# Altium integrated library Maxim Sensors.IntLib: 1171 symbols (part 61 of 61)
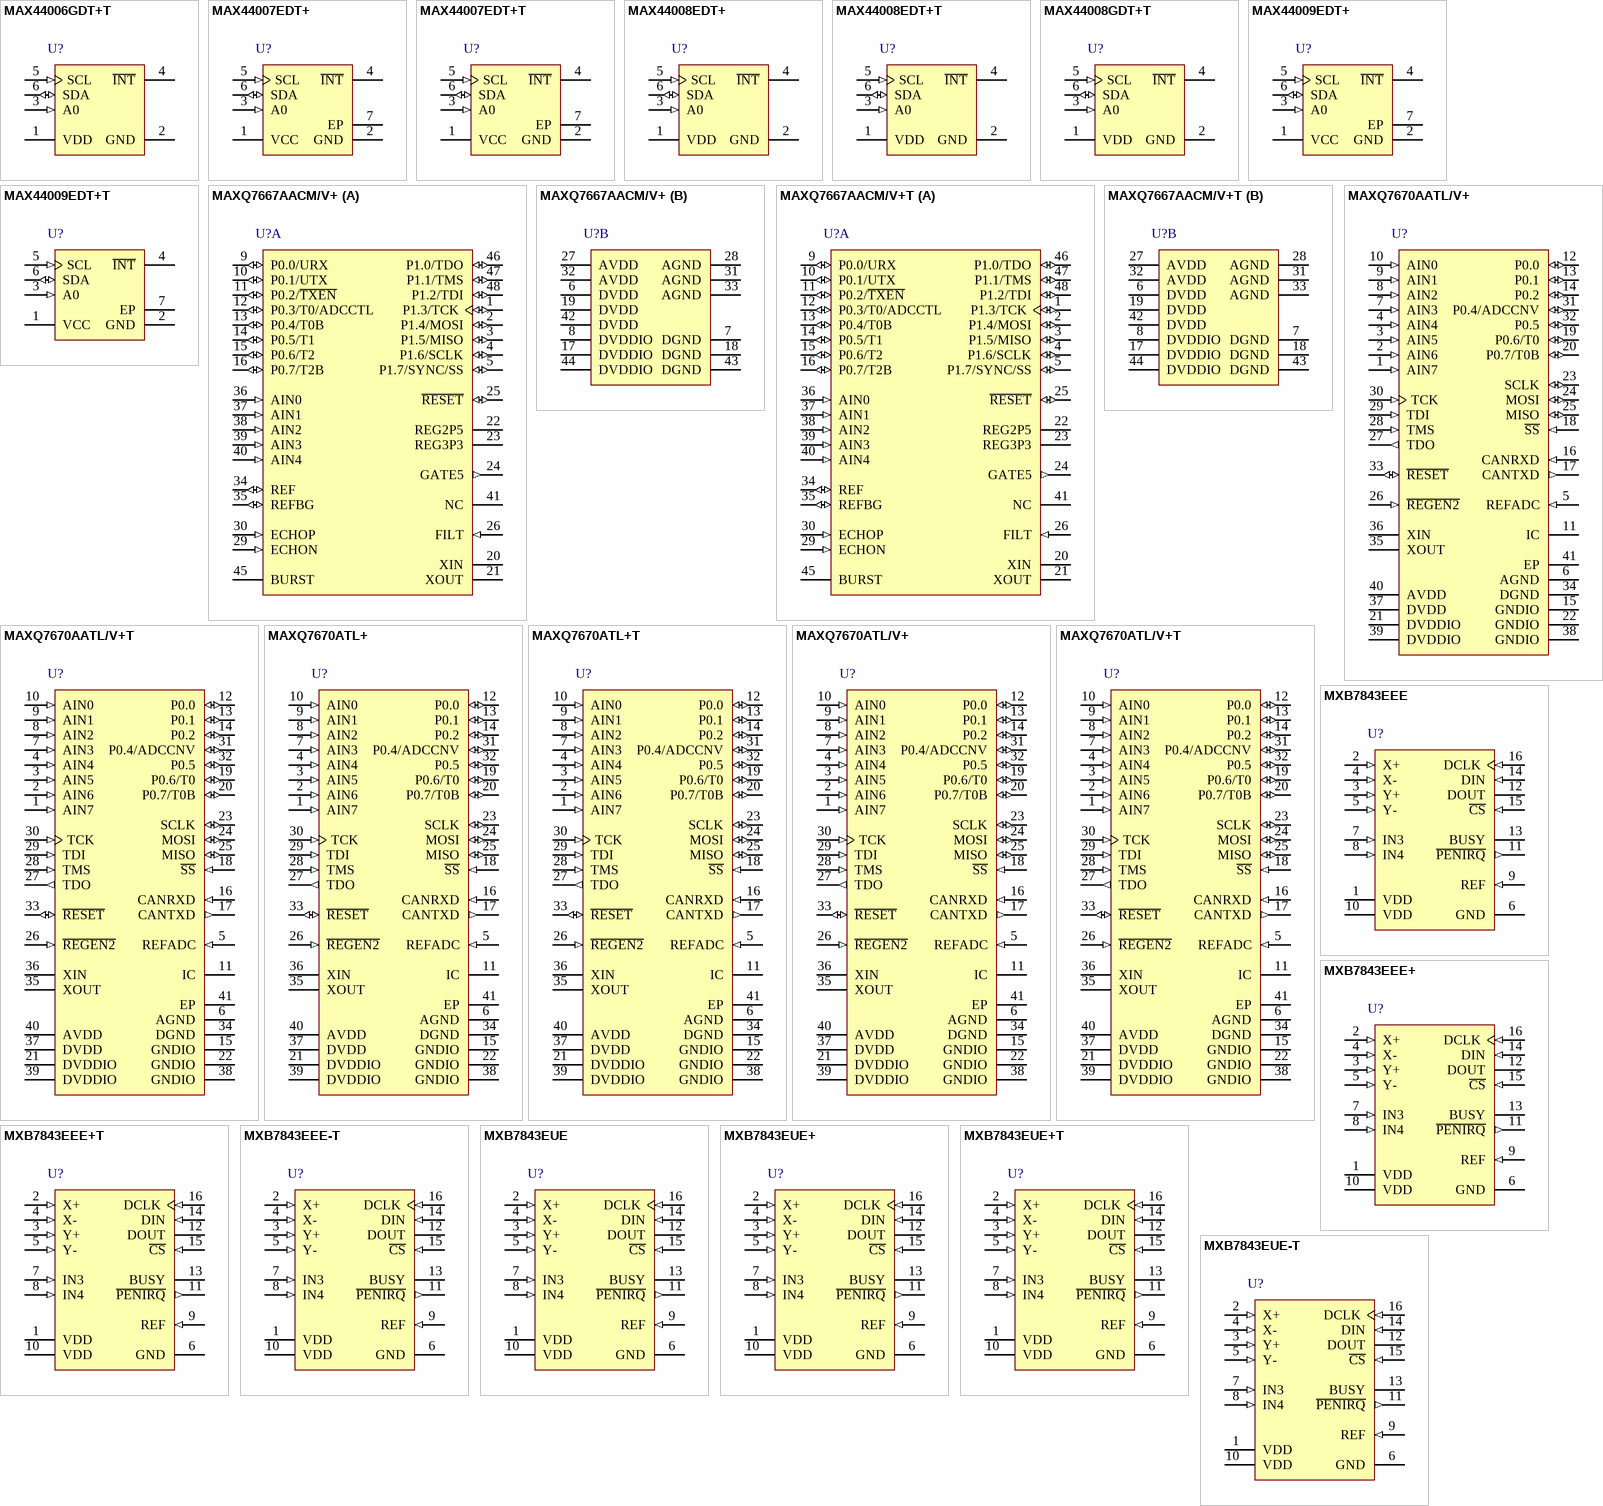
[diagram p93: symbols MAX44006GDT+T to MXB7843EUE-T]

## MXB7843EEE
designator U?
4 Channels, 2.375 to 5.25 V, 4-Wire Touch-Screen Controller, -40 to 85 degC, 16-Pin SOP (E16-5); Generic Part Number: MXB7843; PartNumber: MXB7843EEE; Channels: 4; Controller Type: Resistive; EV Kit: Yes; Interface: QSPI, SPI; DatasheetVersion: Rev. 1; PackageVersion: Rev. K, 04/2012; PackageReference: E16-5; PackageDescription: 16-Pin Quarter Small-Outline Package, Body 3.9 x 4.89 mm, Pitch 0.635 mm; Supplier 1: Mouser; Supplier Part Number 1: N/A; Mounting Technology: Surface Mount; Code_JEDEC: MO-137; ComponentLink1Description: Manufacturer URL; ComponentLink1URL: http://www.maximintegrated.com/; ComponentLink2Description: Datasheet; ComponentLink2URL: http://datasheets.maximintegrated.com/en/ds/MXB7843.pdf; ComponentLink3Description: Package Specification; ComponentLink3URL: http://pdfserv.maximintegrated.com/package_dwgs/21-0055.PDF
footprint MAXM-E16-5_N (SOP, 16-Leads, Body 4.89x3.9mm, Pitch 0.635mm, IPC Medium Density)
footprint MAXM-E16-5_L (SOP, 16-Leads, Body 4.89x3.9mm, Pitch 0.635mm, IPC High Density)
footprint MAXM-E16-5_M (SOP, 16-Leads, Body 4.89x3.9mm, Pitch 0.635mm, IPC Low Density)
pins: 1 VDD (power) "Positive Supply Voltage. Connect to pin 10.", 2 X+ (in) "X+ Position Input, ADC Input Channel 1", 3 Y+ (in) "Y+ Position Input, ADC Input Channel 2", 4 X- (in) "X- Position Input", 5 Y- (in) "Y- Position Input", 6 GND (power) "Ground", 7 IN3 (in) "Auxiliary Input to ADC; ADC Input Channel 3", 8 IN4 (in) "Auxiliary Input to ADC; ADC Input Channel 4", 9 REF (in) "Voltage Reference Input. Reference voltage for analog-to-digital conversion. Apply a reference voltage between 1V and VDD. Bypass REF to GND with a 0.1uF capacitor.", 10 VDD (power) "Positive Supply Voltage, +2.375V to +5.25V. Bypass with a 1uF capacitor. Connect to pin 1.", 11 ~{PENIRQ} (out) "Pen Interrupt Output. Open anode output. 10k ohm to 100k ohm pullup resistor required to VDD.", 12 DOUT (hiz) "Serial Data Output. Data changes state on the falling edge of DCLK. High impedance when C\S\ is HIGH.", 13 BUSY (hiz) "Busy Output. BUSY pulses high for one clock period before the MSB decision. High impedance when C\S\ is HIGH.", 14 DIN (in) "Serial Data Input. Data clocked in on the rising edge of DCLK.", 15 ~{CS} (in) "Active-Low Chip Select. Data is only clocked into DIN when C\S\ is low. When C\S\ is high, DOUT and BUSY are high impedance", 16 DCLK (in) "Serial Clock Input. Clocks data in and out of the serial interface and sets the conversion speed (duty cycle must be 40% to 60%)."

## MXB7843EEE+
designator U?
4 Channels, 2.375 to 5.25 V, 4-Wire Touch-Screen Controller, -40 to 85 degC, 16-Pin SOP (E16+5), Pb-Free; Generic Part Number: MXB7843; PartNumber: MXB7843EEE+; Channels: 4; Controller Type: Resistive; EV Kit: Yes; Interface: QSPI, SPI; DatasheetVersion: Rev. 1; PackageVersion: Rev. K, 04/2012; PackageReference: E16+5; PackageDescription: 16-Pin Quarter Small-Outline Package, Body 3.9 x 4.89 mm, Pitch 0.635 mm; Supplier 1: Digi-Key; Supplier Part Number 1: MXB7843EEE+-ND; Supplier 2: Newark; Supplier Part Number 2: 23K7085; Supplier 3: Mouser; Supplier Part Number 3: 700-MXB7843EEE; Mounting Technology: Surface Mount; Code_JEDEC: MO-137; ComponentLink1Description: Manufacturer URL; ComponentLink1URL: http://www.maximintegrated.com/; ComponentLink2Description: Datasheet; ComponentLink2URL: http://datasheets.maximintegrated.com/en/ds/MXB7843.pdf; ComponentLink3Description: Package Specification; ComponentLink3URL: http://pdfserv.maximintegrated.com/package_dwgs/21-0055.PDF
footprint MAXM-E16+5_N (SOP, 16-Leads, Body 4.89x3.9mm, Pitch 0.635mm, IPC Medium Density)
footprint MAXM-E16+5_L (SOP, 16-Leads, Body 4.89x3.9mm, Pitch 0.635mm, IPC High Density)
footprint MAXM-E16+5_M (SOP, 16-Leads, Body 4.89x3.9mm, Pitch 0.635mm, IPC Low Density)
pins: 1 VDD (power) "Positive Supply Voltage. Connect to pin 10.", 2 X+ (in) "X+ Position Input, ADC Input Channel 1", 3 Y+ (in) "Y+ Position Input, ADC Input Channel 2", 4 X- (in) "X- Position Input", 5 Y- (in) "Y- Position Input", 6 GND (power) "Ground", 7 IN3 (in) "Auxiliary Input to ADC; ADC Input Channel 3", 8 IN4 (in) "Auxiliary Input to ADC; ADC Input Channel 4", 9 REF (in) "Voltage Reference Input. Reference voltage for analog-to-digital conversion. Apply a reference voltage between 1V and VDD. Bypass REF to GND with a 0.1uF capacitor.", 10 VDD (power) "Positive Supply Voltage, +2.375V to +5.25V. Bypass with a 1uF capacitor. Connect to pin 1.", 11 ~{PENIRQ} (out) "Pen Interrupt Output. Open anode output. 10k ohm to 100k ohm pullup resistor required to VDD.", 12 DOUT (hiz) "Serial Data Output. Data changes state on the falling edge of DCLK. High impedance when C\S\ is HIGH.", 13 BUSY (hiz) "Busy Output. BUSY pulses high for one clock period before the MSB decision. High impedance when C\S\ is HIGH.", 14 DIN (in) "Serial Data Input. Data clocked in on the rising edge of DCLK.", 15 ~{CS} (in) "Active-Low Chip Select. Data is only clocked into DIN when C\S\ is low. When C\S\ is high, DOUT and BUSY are high impedance", 16 DCLK (in) "Serial Clock Input. Clocks data in and out of the serial interface and sets the conversion speed (duty cycle must be 40% to 60%)."

## MXB7843EEE+T
designator U?
4 Channels, 2.375 to 5.25 V, 4-Wire Touch-Screen Controller, -40 to 85 degC, 16-Pin SOP (E16+5), Pb-Free, Tape and Reel; Generic Part Number: MXB7843; PartNumber: MXB7843EEE+T; Channels: 4; Controller Type: Resistive; EV Kit: Yes; Interface: QSPI, SPI; DatasheetVersion: Rev. 1; PackageVersion: Rev. K, 04/2012; PackageReference: E16+5; PackageDescription: 16-Pin Quarter Small-Outline Package, Body 3.9 x 4.89 mm, Pitch 0.635 mm; Supplier 1: Digi-Key; Supplier Part Number 1: MXB7843EEE+T-ND; Supplier 2: Mouser; Supplier Part Number 2: 700-MXB7843EEET; Packing: Tape and Reel; Mounting Technology: Surface Mount; Code_JEDEC: MO-137; ComponentLink1Description: Manufacturer URL; ComponentLink1URL: http://www.maximintegrated.com/; ComponentLink2Description: Datasheet; ComponentLink2URL: http://datasheets.maximintegrated.com/en/ds/MXB7843.pdf; ComponentLink3Description: Package Specification; ComponentLink3URL: http://pdfserv.maximintegrated.com/package_dwgs/21-0055.PDF
footprint MAXM-E16+5_N (SOP, 16-Leads, Body 4.89x3.9mm, Pitch 0.635mm, IPC Medium Density)
footprint MAXM-E16+5_L (SOP, 16-Leads, Body 4.89x3.9mm, Pitch 0.635mm, IPC High Density)
footprint MAXM-E16+5_M (SOP, 16-Leads, Body 4.89x3.9mm, Pitch 0.635mm, IPC Low Density)
pins: 1 VDD (power) "Positive Supply Voltage. Connect to pin 10.", 2 X+ (in) "X+ Position Input, ADC Input Channel 1", 3 Y+ (in) "Y+ Position Input, ADC Input Channel 2", 4 X- (in) "X- Position Input", 5 Y- (in) "Y- Position Input", 6 GND (power) "Ground", 7 IN3 (in) "Auxiliary Input to ADC; ADC Input Channel 3", 8 IN4 (in) "Auxiliary Input to ADC; ADC Input Channel 4", 9 REF (in) "Voltage Reference Input. Reference voltage for analog-to-digital conversion. Apply a reference voltage between 1V and VDD. Bypass REF to GND with a 0.1uF capacitor.", 10 VDD (power) "Positive Supply Voltage, +2.375V to +5.25V. Bypass with a 1uF capacitor. Connect to pin 1.", 11 ~{PENIRQ} (out) "Pen Interrupt Output. Open anode output. 10k ohm to 100k ohm pullup resistor required to VDD.", 12 DOUT (hiz) "Serial Data Output. Data changes state on the falling edge of DCLK. High impedance when C\S\ is HIGH.", 13 BUSY (hiz) "Busy Output. BUSY pulses high for one clock period before the MSB decision. High impedance when C\S\ is HIGH.", 14 DIN (in) "Serial Data Input. Data clocked in on the rising edge of DCLK.", 15 ~{CS} (in) "Active-Low Chip Select. Data is only clocked into DIN when C\S\ is low. When C\S\ is high, DOUT and BUSY are high impedance", 16 DCLK (in) "Serial Clock Input. Clocks data in and out of the serial interface and sets the conversion speed (duty cycle must be 40% to 60%)."

## MXB7843EEE-T
designator U?
4 Channels, 2.375 to 5.25 V, 4-Wire Touch-Screen Controller, -40 to 85 degC, 16-Pin SOP (E16-5), Tape and Reel; Generic Part Number: MXB7843; PartNumber: MXB7843EEE-T; Channels: 4; Controller Type: Resistive; EV Kit: Yes; Interface: QSPI, SPI; DatasheetVersion: Rev. 1; PackageVersion: Rev. K, 04/2012; PackageReference: E16-5; PackageDescription: 16-Pin Quarter Small-Outline Package, Body 3.9 x 4.89 mm, Pitch 0.635 mm; Supplier 1: Mouser; Supplier Part Number 1: N/A; Packing: Tape and Reel; Mounting Technology: Surface Mount; Code_JEDEC: MO-137; ComponentLink1Description: Manufacturer URL; ComponentLink1URL: http://www.maximintegrated.com/; ComponentLink2Description: Datasheet; ComponentLink2URL: http://datasheets.maximintegrated.com/en/ds/MXB7843.pdf; ComponentLink3Description: Package Specification; ComponentLink3URL: http://pdfserv.maximintegrated.com/package_dwgs/21-0055.PDF
footprint MAXM-E16-5_N (SOP, 16-Leads, Body 4.89x3.9mm, Pitch 0.635mm, IPC Medium Density)
footprint MAXM-E16-5_L (SOP, 16-Leads, Body 4.89x3.9mm, Pitch 0.635mm, IPC High Density)
footprint MAXM-E16-5_M (SOP, 16-Leads, Body 4.89x3.9mm, Pitch 0.635mm, IPC Low Density)
pins: 1 VDD (power) "Positive Supply Voltage. Connect to pin 10.", 2 X+ (in) "X+ Position Input, ADC Input Channel 1", 3 Y+ (in) "Y+ Position Input, ADC Input Channel 2", 4 X- (in) "X- Position Input", 5 Y- (in) "Y- Position Input", 6 GND (power) "Ground", 7 IN3 (in) "Auxiliary Input to ADC; ADC Input Channel 3", 8 IN4 (in) "Auxiliary Input to ADC; ADC Input Channel 4", 9 REF (in) "Voltage Reference Input. Reference voltage for analog-to-digital conversion. Apply a reference voltage between 1V and VDD. Bypass REF to GND with a 0.1uF capacitor.", 10 VDD (power) "Positive Supply Voltage, +2.375V to +5.25V. Bypass with a 1uF capacitor. Connect to pin 1.", 11 ~{PENIRQ} (out) "Pen Interrupt Output. Open anode output. 10k ohm to 100k ohm pullup resistor required to VDD.", 12 DOUT (hiz) "Serial Data Output. Data changes state on the falling edge of DCLK. High impedance when C\S\ is HIGH.", 13 BUSY (hiz) "Busy Output. BUSY pulses high for one clock period before the MSB decision. High impedance when C\S\ is HIGH.", 14 DIN (in) "Serial Data Input. Data clocked in on the rising edge of DCLK.", 15 ~{CS} (in) "Active-Low Chip Select. Data is only clocked into DIN when C\S\ is low. When C\S\ is high, DOUT and BUSY are high impedance", 16 DCLK (in) "Serial Clock Input. Clocks data in and out of the serial interface and sets the conversion speed (duty cycle must be 40% to 60%)."

## MXB7843EUE
designator U?
4 Channels, 2.375 to 5.25 V, 4-Wire Touch-Screen Controller, -40 to 85 degC, 16-Pin SOP (U16-1); Generic Part Number: MXB7843; PartNumber: MXB7843EUE; Channels: 4; Controller Type: Resistive; EV Kit: Yes; Interface: QSPI, SPI; DatasheetVersion: Rev. 1; PackageVersion: Rev. L, 07/2010; PackageReference: U16-1; PackageDescription: 16-Pin Thin Shrink Small-Outline Package (U16-1), Body 5 x 4.4 mm, Pitch 0.65 mm; Supplier 1: Mouser; Supplier Part Number 1: N/A; Mounting Technology: Surface Mount; Code_JEDEC: MO-153; ComponentLink1Description: Manufacturer URL; ComponentLink1URL: http://www.maximintegrated.com/; ComponentLink2Description: Datasheet; ComponentLink2URL: http://datasheets.maximintegrated.com/en/ds/MXB7843.pdf; ComponentLink3Description: Package Specification; ComponentLink3URL: http://pdfserv.maximintegrated.com/package_dwgs/21-0066.PDF
footprint MAXM-U16-1_N (SOP, 16-Leads, Body 5x4.4mm, Pitch 0.65mm, IPC Medium Density)
footprint MAXM-U16-1_L (SOP, 16-Leads, Body 5x4.4mm, Pitch 0.65mm, IPC High Density)
footprint MAXM-U16-1_M (SOP, 16-Leads, Body 5x4.4mm, Pitch 0.65mm, IPC Low Density)
pins: 1 VDD (power) "Positive Supply Voltage. Connect to pin 10.", 2 X+ (in) "X+ Position Input, ADC Input Channel 1", 3 Y+ (in) "Y+ Position Input, ADC Input Channel 2", 4 X- (in) "X- Position Input", 5 Y- (in) "Y- Position Input", 6 GND (power) "Ground", 7 IN3 (in) "Auxiliary Input to ADC; ADC Input Channel 3", 8 IN4 (in) "Auxiliary Input to ADC; ADC Input Channel 4", 9 REF (in) "Voltage Reference Input. Reference voltage for analog-to-digital conversion. Apply a reference voltage between 1V and VDD. Bypass REF to GND with a 0.1uF capacitor.", 10 VDD (power) "Positive Supply Voltage, +2.375V to +5.25V. Bypass with a 1uF capacitor. Connect to pin 1.", 11 ~{PENIRQ} (out) "Pen Interrupt Output. Open anode output. 10k ohm to 100k ohm pullup resistor required to VDD.", 12 DOUT (hiz) "Serial Data Output. Data changes state on the falling edge of DCLK. High impedance when C\S\ is HIGH.", 13 BUSY (hiz) "Busy Output. BUSY pulses high for one clock period before the MSB decision. High impedance when C\S\ is HIGH.", 14 DIN (in) "Serial Data Input. Data clocked in on the rising edge of DCLK.", 15 ~{CS} (in) "Active-Low Chip Select. Data is only clocked into DIN when C\S\ is low. When C\S\ is high, DOUT and BUSY are high impedance", 16 DCLK (in) "Serial Clock Input. Clocks data in and out of the serial interface and sets the conversion speed (duty cycle must be 40% to 60%)."

## MXB7843EUE+
designator U?
4 Channels, 2.375 to 5.25 V, 4-Wire Touch-Screen Controller, -40 to 85 degC, 16-Pin SOP (U16+1), Pb-Free; Generic Part Number: MXB7843; PartNumber: MXB7843EUE+; Channels: 4; Controller Type: Resistive; EV Kit: Yes; Interface: QSPI, SPI; DatasheetVersion: Rev. 1; PackageVersion: Rev. L, 07/2010; PackageReference: U16+1; PackageDescription: 16-Pin Thin Shrink Small-Outline Package (U16+1), Body 5 x 4.4 mm, Pitch 0.65 mm; Supplier 1: Digi-Key; Supplier Part Number 1: MXB7843EUE+-ND; Supplier 2: Mouser; Supplier Part Number 2: 700-MXB7843EUE; Mounting Technology: Surface Mount; Code_JEDEC: MO-153; ComponentLink1Description: Manufacturer URL; ComponentLink1URL: http://www.maximintegrated.com/; ComponentLink2Description: Datasheet; ComponentLink2URL: http://datasheets.maximintegrated.com/en/ds/MXB7843.pdf; ComponentLink3Description: Package Specification; ComponentLink3URL: http://pdfserv.maximintegrated.com/package_dwgs/21-0066.PDF
footprint MAXM-U16+1_N (SOP, 16-Leads, Body 5x4.4mm, Pitch 0.65mm, IPC Medium Density)
footprint MAXM-U16+1_L (SOP, 16-Leads, Body 5x4.4mm, Pitch 0.65mm, IPC High Density)
footprint MAXM-U16+1_M (SOP, 16-Leads, Body 5x4.4mm, Pitch 0.65mm, IPC Low Density)
pins: 1 VDD (power) "Positive Supply Voltage. Connect to pin 10.", 2 X+ (in) "X+ Position Input, ADC Input Channel 1", 3 Y+ (in) "Y+ Position Input, ADC Input Channel 2", 4 X- (in) "X- Position Input", 5 Y- (in) "Y- Position Input", 6 GND (power) "Ground", 7 IN3 (in) "Auxiliary Input to ADC; ADC Input Channel 3", 8 IN4 (in) "Auxiliary Input to ADC; ADC Input Channel 4", 9 REF (in) "Voltage Reference Input. Reference voltage for analog-to-digital conversion. Apply a reference voltage between 1V and VDD. Bypass REF to GND with a 0.1uF capacitor.", 10 VDD (power) "Positive Supply Voltage, +2.375V to +5.25V. Bypass with a 1uF capacitor. Connect to pin 1.", 11 ~{PENIRQ} (out) "Pen Interrupt Output. Open anode output. 10k ohm to 100k ohm pullup resistor required to VDD.", 12 DOUT (hiz) "Serial Data Output. Data changes state on the falling edge of DCLK. High impedance when C\S\ is HIGH.", 13 BUSY (hiz) "Busy Output. BUSY pulses high for one clock period before the MSB decision. High impedance when C\S\ is HIGH.", 14 DIN (in) "Serial Data Input. Data clocked in on the rising edge of DCLK.", 15 ~{CS} (in) "Active-Low Chip Select. Data is only clocked into DIN when C\S\ is low. When C\S\ is high, DOUT and BUSY are high impedance", 16 DCLK (in) "Serial Clock Input. Clocks data in and out of the serial interface and sets the conversion speed (duty cycle must be 40% to 60%)."

## MXB7843EUE+T
designator U?
4 Channels, 2.375 to 5.25 V, 4-Wire Touch-Screen Controller, -40 to 85 degC, 16-Pin SOP (U16+1), Pb-Free, Tape and Reel; Generic Part Number: MXB7843; PartNumber: MXB7843EUE+T; Channels: 4; Controller Type: Resistive; EV Kit: Yes; Interface: QSPI, SPI; DatasheetVersion: Rev. 1; PackageVersion: Rev. L, 07/2010; PackageReference: U16+1; PackageDescription: 16-Pin Thin Shrink Small-Outline Package (U16+1), Body 5 x 4.4 mm, Pitch 0.65 mm; Supplier 1: Digi-Key; Supplier Part Number 1: MXB7843EUE+T-ND; Supplier 2: Mouser; Supplier Part Number 2: 700-MXB7843EUET; Packing: Tape and Reel; Mounting Technology: Surface Mount; Code_JEDEC: MO-153; ComponentLink1Description: Manufacturer URL; ComponentLink1URL: http://www.maximintegrated.com/; ComponentLink2Description: Datasheet; ComponentLink2URL: http://datasheets.maximintegrated.com/en/ds/MXB7843.pdf; ComponentLink3Description: Package Specification; ComponentLink3URL: http://pdfserv.maximintegrated.com/package_dwgs/21-0066.PDF
footprint MAXM-U16+1_N (SOP, 16-Leads, Body 5x4.4mm, Pitch 0.65mm, IPC Medium Density)
footprint MAXM-U16+1_L (SOP, 16-Leads, Body 5x4.4mm, Pitch 0.65mm, IPC High Density)
footprint MAXM-U16+1_M (SOP, 16-Leads, Body 5x4.4mm, Pitch 0.65mm, IPC Low Density)
pins: 1 VDD (power) "Positive Supply Voltage. Connect to pin 10.", 2 X+ (in) "X+ Position Input, ADC Input Channel 1", 3 Y+ (in) "Y+ Position Input, ADC Input Channel 2", 4 X- (in) "X- Position Input", 5 Y- (in) "Y- Position Input", 6 GND (power) "Ground", 7 IN3 (in) "Auxiliary Input to ADC; ADC Input Channel 3", 8 IN4 (in) "Auxiliary Input to ADC; ADC Input Channel 4", 9 REF (in) "Voltage Reference Input. Reference voltage for analog-to-digital conversion. Apply a reference voltage between 1V and VDD. Bypass REF to GND with a 0.1uF capacitor.", 10 VDD (power) "Positive Supply Voltage, +2.375V to +5.25V. Bypass with a 1uF capacitor. Connect to pin 1.", 11 ~{PENIRQ} (out) "Pen Interrupt Output. Open anode output. 10k ohm to 100k ohm pullup resistor required to VDD.", 12 DOUT (hiz) "Serial Data Output. Data changes state on the falling edge of DCLK. High impedance when C\S\ is HIGH.", 13 BUSY (hiz) "Busy Output. BUSY pulses high for one clock period before the MSB decision. High impedance when C\S\ is HIGH.", 14 DIN (in) "Serial Data Input. Data clocked in on the rising edge of DCLK.", 15 ~{CS} (in) "Active-Low Chip Select. Data is only clocked into DIN when C\S\ is low. When C\S\ is high, DOUT and BUSY are high impedance", 16 DCLK (in) "Serial Clock Input. Clocks data in and out of the serial interface and sets the conversion speed (duty cycle must be 40% to 60%)."

## MXB7843EUE-T
designator U?
4 Channels, 2.375 to 5.25 V, 4-Wire Touch-Screen Controller, -40 to 85 degC, 16-Pin SOP (U16-1), Tape and Reel; Generic Part Number: MXB7843; PartNumber: MXB7843EUE-T; Channels: 4; Controller Type: Resistive; EV Kit: Yes; Interface: QSPI, SPI; DatasheetVersion: Rev. 1; PackageVersion: Rev. L, 07/2010; PackageReference: U16-1; PackageDescription: 16-Pin Thin Shrink Small-Outline Package (U16-1), Body 5 x 4.4 mm, Pitch 0.65 mm; Supplier 1: Mouser; Supplier Part Number 1: N/A; Packing: Tape and Reel; Mounting Technology: Surface Mount; Code_JEDEC: MO-153; ComponentLink1Description: Manufacturer URL; ComponentLink1URL: http://www.maximintegrated.com/; ComponentLink2Description: Datasheet; ComponentLink2URL: http://datasheets.maximintegrated.com/en/ds/MXB7843.pdf; ComponentLink3Description: Package Specification; ComponentLink3URL: http://pdfserv.maximintegrated.com/package_dwgs/21-0066.PDF
footprint MAXM-U16-1_N (SOP, 16-Leads, Body 5x4.4mm, Pitch 0.65mm, IPC Medium Density)
footprint MAXM-U16-1_L (SOP, 16-Leads, Body 5x4.4mm, Pitch 0.65mm, IPC High Density)
footprint MAXM-U16-1_M (SOP, 16-Leads, Body 5x4.4mm, Pitch 0.65mm, IPC Low Density)
pins: 1 VDD (power) "Positive Supply Voltage. Connect to pin 10.", 2 X+ (in) "X+ Position Input, ADC Input Channel 1", 3 Y+ (in) "Y+ Position Input, ADC Input Channel 2", 4 X- (in) "X- Position Input", 5 Y- (in) "Y- Position Input", 6 GND (power) "Ground", 7 IN3 (in) "Auxiliary Input to ADC; ADC Input Channel 3", 8 IN4 (in) "Auxiliary Input to ADC; ADC Input Channel 4", 9 REF (in) "Voltage Reference Input. Reference voltage for analog-to-digital conversion. Apply a reference voltage between 1V and VDD. Bypass REF to GND with a 0.1uF capacitor.", 10 VDD (power) "Positive Supply Voltage, +2.375V to +5.25V. Bypass with a 1uF capacitor. Connect to pin 1.", 11 ~{PENIRQ} (out) "Pen Interrupt Output. Open anode output. 10k ohm to 100k ohm pullup resistor required to VDD.", 12 DOUT (hiz) "Serial Data Output. Data changes state on the falling edge of DCLK. High impedance when C\S\ is HIGH.", 13 BUSY (hiz) "Busy Output. BUSY pulses high for one clock period before the MSB decision. High impedance when C\S\ is HIGH.", 14 DIN (in) "Serial Data Input. Data clocked in on the rising edge of DCLK.", 15 ~{CS} (in) "Active-Low Chip Select. Data is only clocked into DIN when C\S\ is low. When C\S\ is high, DOUT and BUSY are high impedance", 16 DCLK (in) "Serial Clock Input. Clocks data in and out of the serial interface and sets the conversion speed (duty cycle must be 40% to 60%)."

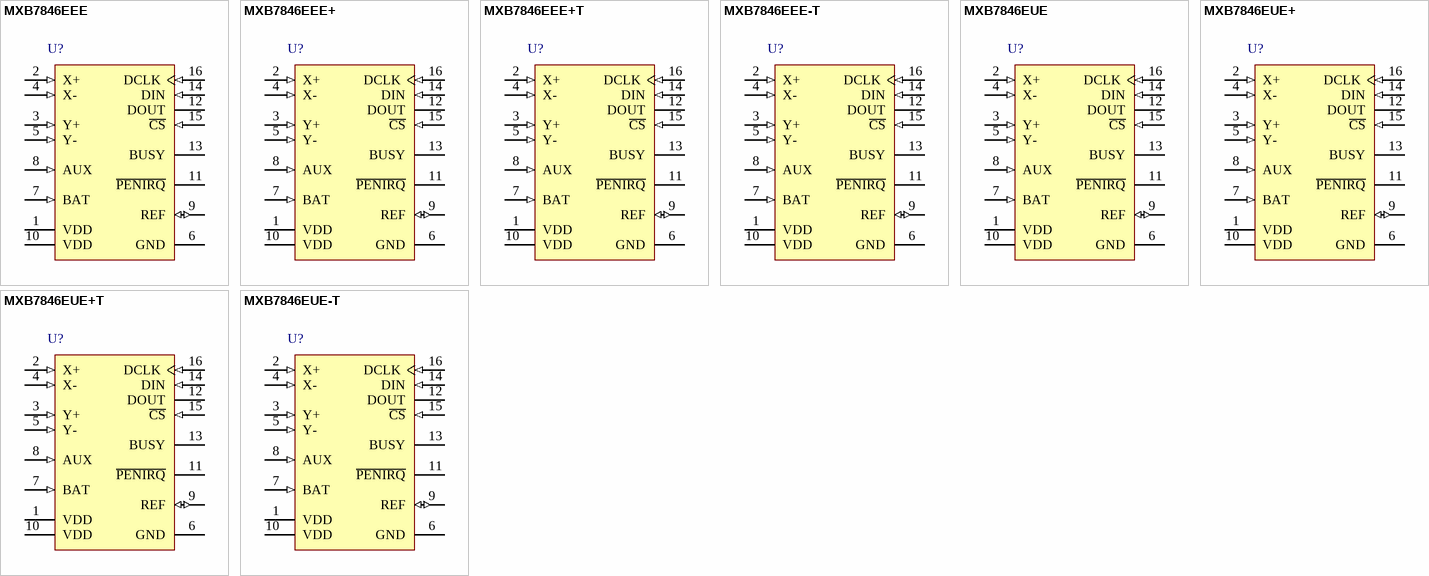
[diagram p33: symbols MXB7846EEE to MXB7846EUE-T]

## MXB7846EEE
designator U?
4 Channels, 2.375 to 5.25 V, 4-Wire Touch-Screen Controller with Internal Reference and Temperature Sensor, -40 to 85 degC, 16-Pin SOP (E16-5); Generic Part Number: MXB7846; PartNumber: MXB7846EEE; Channels: 4; Controller Type: Resistive; EV Kit: Yes; Interface: QSPI, SPI; DatasheetVersion: Rev. 2; PackageVersion: Rev. K, 04/2012; PackageReference: E16-5; PackageDescription: 16-Pin Quarter Small-Outline Package, Body 3.9 x 4.89 mm, Pitch 0.635 mm; Supplier 1: Mouser; Supplier Part Number 1: N/A; Mounting Technology: Surface Mount; Code_JEDEC: MO-137; ComponentLink1Description: Manufacturer URL; ComponentLink1URL: http://www.maximintegrated.com/; ComponentLink2Description: Datasheet; ComponentLink2URL: http://datasheets.maximintegrated.com/en/ds/MXB7846.pdf; ComponentLink3Description: Package Specification; ComponentLink3URL: http://pdfserv.maximintegrated.com/package_dwgs/21-0055.PDF
footprint MAXM-E16-5_N (SOP, 16-Leads, Body 4.89x3.9mm, Pitch 0.635mm, IPC Medium Density)
footprint MAXM-E16-5_L (SOP, 16-Leads, Body 4.89x3.9mm, Pitch 0.635mm, IPC High Density)
footprint MAXM-E16-5_M (SOP, 16-Leads, Body 4.89x3.9mm, Pitch 0.635mm, IPC Low Density)
pins: 1 VDD (power) "Positive Supply Voltage. Connect to pin 10.", 2 X+ (in) "X+ Position Input, ADC Input Channel 1", 3 Y+ (in) "Y+ Position Input, ADC Input Channel 2", 4 X- (in) "X- Position Input", 5 Y- (in) "Y- Position Input", 6 GND (power) "Ground", 7 BAT (in) "Battery Monitoring Inputs; ADC Input Channel 3", 8 AUX (in) "Auxiliary Input to ADC; ADC Input Channel 4", 9 REF (io) "Voltage Reference Output/Input. Reference voltage for analog-to-digital conversion. In internal reference mode, the reference buffer provides a 2.50V nominal output. In external reference mode, apply a reference voltage (See Datasheet)", 10 VDD (power) "Positive Supply Voltage, +2.375V (2.70V) to +5.25V. External (internal) reference. Bypass with a 1uF capacitor. Connect to pin 1.", 11 ~{PENIRQ} (oc) "Pen Interrupt Output. Open anode output. 10k ohm to 100k ohm pullup resistor required to VDD.", 12 DOUT (hiz) "Serial Data Output. Data changes state on the falling edge of DCLK. High impedance when C\S\ is HIGH.", 13 BUSY (hiz) "Busy Output. BUSY pulses high for one clock period before the MSB decision. High impedance when C\S\ is HIGH.", 14 DIN (in) "Serial Data Input. Data clocked in on the rising edge of DCLK.", 15 ~{CS} (in) "Active-Low Chip Select. Data is only clocked into DIN when C\S\ is low. When C\S\ is HIGH, DOUT and BUSY are high impedance", 16 DCLK (in) "Serial Clock Input. Clocks data in and out of the serial interface and sets the conversion speed (duty cycle must be 40% to 60%)."

## MXB7846EEE+
designator U?
4 Channels, 2.375 to 5.25 V, 4-Wire Touch-Screen Controller with Internal Reference and Temperature Sensor, -40 to 85 degC, 16-Pin SOP (E16+5), Pb-Free; Generic Part Number: MXB7846; PartNumber: MXB7846EEE+; Channels: 4; Controller Type: Resistive; EV Kit: Yes; Interface: QSPI, SPI; DatasheetVersion: Rev. 2; PackageVersion: Rev. K, 04/2012; PackageReference: E16+5; PackageDescription: 16-Pin Quarter Small-Outline Package, Body 3.9 x 4.89 mm, Pitch 0.635 mm; Supplier 1: Digi-Key; Supplier Part Number 1: MXB7846EEE+-ND; Supplier 2: Mouser; Supplier Part Number 2: 700-MXB7846EEE; Mounting Technology: Surface Mount; Code_JEDEC: MO-137; ComponentLink1Description: Manufacturer URL; ComponentLink1URL: http://www.maximintegrated.com/; ComponentLink2Description: Datasheet; ComponentLink2URL: http://datasheets.maximintegrated.com/en/ds/MXB7846.pdf; ComponentLink3Description: Package Specification; ComponentLink3URL: http://pdfserv.maximintegrated.com/package_dwgs/21-0055.PDF
footprint MAXM-E16+5_N (SOP, 16-Leads, Body 4.89x3.9mm, Pitch 0.635mm, IPC Medium Density)
footprint MAXM-E16+5_L (SOP, 16-Leads, Body 4.89x3.9mm, Pitch 0.635mm, IPC High Density)
footprint MAXM-E16+5_M (SOP, 16-Leads, Body 4.89x3.9mm, Pitch 0.635mm, IPC Low Density)
pins: 1 VDD (power) "Positive Supply Voltage. Connect to pin 10.", 2 X+ (in) "X+ Position Input, ADC Input Channel 1", 3 Y+ (in) "Y+ Position Input, ADC Input Channel 2", 4 X- (in) "X- Position Input", 5 Y- (in) "Y- Position Input", 6 GND (power) "Ground", 7 BAT (in) "Battery Monitoring Inputs; ADC Input Channel 3", 8 AUX (in) "Auxiliary Input to ADC; ADC Input Channel 4", 9 REF (io) "Voltage Reference Output/Input. Reference voltage for analog-to-digital conversion. In internal reference mode, the reference buffer provides a 2.50V nominal output. In external reference mode, apply a reference voltage (See Datasheet)", 10 VDD (power) "Positive Supply Voltage, +2.375V (2.70V) to +5.25V. External (internal) reference. Bypass with a 1uF capacitor. Connect to pin 1.", 11 ~{PENIRQ} (oc) "Pen Interrupt Output. Open anode output. 10k ohm to 100k ohm pullup resistor required to VDD.", 12 DOUT (hiz) "Serial Data Output. Data changes state on the falling edge of DCLK. High impedance when C\S\ is HIGH.", 13 BUSY (hiz) "Busy Output. BUSY pulses high for one clock period before the MSB decision. High impedance when C\S\ is HIGH.", 14 DIN (in) "Serial Data Input. Data clocked in on the rising edge of DCLK.", 15 ~{CS} (in) "Active-Low Chip Select. Data is only clocked into DIN when C\S\ is low. When C\S\ is HIGH, DOUT and BUSY are high impedance", 16 DCLK (in) "Serial Clock Input. Clocks data in and out of the serial interface and sets the conversion speed (duty cycle must be 40% to 60%)."

## MXB7846EEE+T
designator U?
4 Channels, 2.375 to 5.25 V, 4-Wire Touch-Screen Controller with Internal Reference and Temperature Sensor, -40 to 85 degC, 16-Pin SOP (E16+5), Pb-Free, Tape and Reel; Generic Part Number: MXB7846; PartNumber: MXB7846EEE+T; Channels: 4; Controller Type: Resistive; EV Kit: Yes; Interface: QSPI, SPI; DatasheetVersion: Rev. 2; PackageVersion: Rev. K, 04/2012; PackageReference: E16+5; PackageDescription: 16-Pin Quarter Small-Outline Package, Body 3.9 x 4.89 mm, Pitch 0.635 mm; Supplier 1: Digi-Key; Supplier Part Number 1: MXB7846EEE+T-ND; Supplier 2: Mouser; Supplier Part Number 2: 700-MXB7846EEET; Packing: Tape and Reel; Mounting Technology: Surface Mount; Code_JEDEC: MO-137; ComponentLink1Description: Manufacturer URL; ComponentLink1URL: http://www.maximintegrated.com/; ComponentLink2Description: Datasheet; ComponentLink2URL: http://datasheets.maximintegrated.com/en/ds/MXB7846.pdf; ComponentLink3Description: Package Specification; ComponentLink3URL: http://pdfserv.maximintegrated.com/package_dwgs/21-0055.PDF
footprint MAXM-E16+5_N (SOP, 16-Leads, Body 4.89x3.9mm, Pitch 0.635mm, IPC Medium Density)
footprint MAXM-E16+5_L (SOP, 16-Leads, Body 4.89x3.9mm, Pitch 0.635mm, IPC High Density)
footprint MAXM-E16+5_M (SOP, 16-Leads, Body 4.89x3.9mm, Pitch 0.635mm, IPC Low Density)
pins: 1 VDD (power) "Positive Supply Voltage. Connect to pin 10.", 2 X+ (in) "X+ Position Input, ADC Input Channel 1", 3 Y+ (in) "Y+ Position Input, ADC Input Channel 2", 4 X- (in) "X- Position Input", 5 Y- (in) "Y- Position Input", 6 GND (power) "Ground", 7 BAT (in) "Battery Monitoring Inputs; ADC Input Channel 3", 8 AUX (in) "Auxiliary Input to ADC; ADC Input Channel 4", 9 REF (io) "Voltage Reference Output/Input. Reference voltage for analog-to-digital conversion. In internal reference mode, the reference buffer provides a 2.50V nominal output. In external reference mode, apply a reference voltage (See Datasheet)", 10 VDD (power) "Positive Supply Voltage, +2.375V (2.70V) to +5.25V. External (internal) reference. Bypass with a 1uF capacitor. Connect to pin 1.", 11 ~{PENIRQ} (oc) "Pen Interrupt Output. Open anode output. 10k ohm to 100k ohm pullup resistor required to VDD.", 12 DOUT (hiz) "Serial Data Output. Data changes state on the falling edge of DCLK. High impedance when C\S\ is HIGH.", 13 BUSY (hiz) "Busy Output. BUSY pulses high for one clock period before the MSB decision. High impedance when C\S\ is HIGH.", 14 DIN (in) "Serial Data Input. Data clocked in on the rising edge of DCLK.", 15 ~{CS} (in) "Active-Low Chip Select. Data is only clocked into DIN when C\S\ is low. When C\S\ is HIGH, DOUT and BUSY are high impedance", 16 DCLK (in) "Serial Clock Input. Clocks data in and out of the serial interface and sets the conversion speed (duty cycle must be 40% to 60%)."

## MXB7846EEE-T
designator U?
4 Channels, 2.375 to 5.25 V, 4-Wire Touch-Screen Controller with Internal Reference and Temperature Sensor, -40 to 85 degC, 16-Pin SOP (E16-5), Tape and Reel; Generic Part Number: MXB7846; PartNumber: MXB7846EEE-T; Channels: 4; Controller Type: Resistive; EV Kit: Yes; Interface: QSPI, SPI; DatasheetVersion: Rev. 2; PackageVersion: Rev. K, 04/2012; PackageReference: E16-5; PackageDescription: 16-Pin Quarter Small-Outline Package, Body 3.9 x 4.89 mm, Pitch 0.635 mm; Supplier 1: Mouser; Supplier Part Number 1: N/A; Packing: Tape and Reel; Mounting Technology: Surface Mount; Code_JEDEC: MO-137; ComponentLink1Description: Manufacturer URL; ComponentLink1URL: http://www.maximintegrated.com/; ComponentLink2Description: Datasheet; ComponentLink2URL: http://datasheets.maximintegrated.com/en/ds/MXB7846.pdf; ComponentLink3Description: Package Specification; ComponentLink3URL: http://pdfserv.maximintegrated.com/package_dwgs/21-0055.PDF
footprint MAXM-E16-5_N (SOP, 16-Leads, Body 4.89x3.9mm, Pitch 0.635mm, IPC Medium Density)
footprint MAXM-E16-5_L (SOP, 16-Leads, Body 4.89x3.9mm, Pitch 0.635mm, IPC High Density)
footprint MAXM-E16-5_M (SOP, 16-Leads, Body 4.89x3.9mm, Pitch 0.635mm, IPC Low Density)
pins: 1 VDD (power) "Positive Supply Voltage. Connect to pin 10.", 2 X+ (in) "X+ Position Input, ADC Input Channel 1", 3 Y+ (in) "Y+ Position Input, ADC Input Channel 2", 4 X- (in) "X- Position Input", 5 Y- (in) "Y- Position Input", 6 GND (power) "Ground", 7 BAT (in) "Battery Monitoring Inputs; ADC Input Channel 3", 8 AUX (in) "Auxiliary Input to ADC; ADC Input Channel 4", 9 REF (io) "Voltage Reference Output/Input. Reference voltage for analog-to-digital conversion. In internal reference mode, the reference buffer provides a 2.50V nominal output. In external reference mode, apply a reference voltage (See Datasheet)", 10 VDD (power) "Positive Supply Voltage, +2.375V (2.70V) to +5.25V. External (internal) reference. Bypass with a 1uF capacitor. Connect to pin 1.", 11 ~{PENIRQ} (oc) "Pen Interrupt Output. Open anode output. 10k ohm to 100k ohm pullup resistor required to VDD.", 12 DOUT (hiz) "Serial Data Output. Data changes state on the falling edge of DCLK. High impedance when C\S\ is HIGH.", 13 BUSY (hiz) "Busy Output. BUSY pulses high for one clock period before the MSB decision. High impedance when C\S\ is HIGH.", 14 DIN (in) "Serial Data Input. Data clocked in on the rising edge of DCLK.", 15 ~{CS} (in) "Active-Low Chip Select. Data is only clocked into DIN when C\S\ is low. When C\S\ is HIGH, DOUT and BUSY are high impedance", 16 DCLK (in) "Serial Clock Input. Clocks data in and out of the serial interface and sets the conversion speed (duty cycle must be 40% to 60%)."

## MXB7846EUE
designator U?
4 Channels, 2.375 to 5.25 V, 4-Wire Touch-Screen Controller with Internal Reference and Temperature Sensor, -40 to 85 degC, 16-Pin SOP (U16-1); Generic Part Number: MXB7846; PartNumber: MXB7846EUE; Channels: 4; Controller Type: Resistive; EV Kit: Yes; Interface: QSPI, SPI; DatasheetVersion: Rev. 2; PackageVersion: Rev. L, 07/2010; PackageReference: U16-1; PackageDescription: 16-Pin Thin Shrink Small-Outline Package (U16-1), Body 5 x 4.4 mm, Pitch 0.65 mm; Supplier 1: Mouser; Supplier Part Number 1: N/A; Mounting Technology: Surface Mount; Code_JEDEC: MO-153; ComponentLink1Description: Manufacturer URL; ComponentLink1URL: http://www.maximintegrated.com/; ComponentLink2Description: Datasheet; ComponentLink2URL: http://datasheets.maximintegrated.com/en/ds/MXB7846.pdf; ComponentLink3Description: Package Specification; ComponentLink3URL: http://pdfserv.maximintegrated.com/package_dwgs/21-0066.PDF
footprint MAXM-U16-1_N (SOP, 16-Leads, Body 5x4.4mm, Pitch 0.65mm, IPC Medium Density)
footprint MAXM-U16-1_L (SOP, 16-Leads, Body 5x4.4mm, Pitch 0.65mm, IPC High Density)
footprint MAXM-U16-1_M (SOP, 16-Leads, Body 5x4.4mm, Pitch 0.65mm, IPC Low Density)
pins: 1 VDD (power) "Positive Supply Voltage. Connect to pin 10.", 2 X+ (in) "X+ Position Input, ADC Input Channel 1", 3 Y+ (in) "Y+ Position Input, ADC Input Channel 2", 4 X- (in) "X- Position Input", 5 Y- (in) "Y- Position Input", 6 GND (power) "Ground", 7 BAT (in) "Battery Monitoring Inputs; ADC Input Channel 3", 8 AUX (in) "Auxiliary Input to ADC; ADC Input Channel 4", 9 REF (io) "Voltage Reference Output/Input. Reference voltage for analog-to-digital conversion. In internal reference mode, the reference buffer provides a 2.50V nominal output. In external reference mode, apply a reference voltage (See Datasheet)", 10 VDD (power) "Positive Supply Voltage, +2.375V (2.70V) to +5.25V. External (internal) reference. Bypass with a 1uF capacitor. Connect to pin 1.", 11 ~{PENIRQ} (oc) "Pen Interrupt Output. Open anode output. 10k ohm to 100k ohm pullup resistor required to VDD.", 12 DOUT (hiz) "Serial Data Output. Data changes state on the falling edge of DCLK. High impedance when C\S\ is HIGH.", 13 BUSY (hiz) "Busy Output. BUSY pulses high for one clock period before the MSB decision. High impedance when C\S\ is HIGH.", 14 DIN (in) "Serial Data Input. Data clocked in on the rising edge of DCLK.", 15 ~{CS} (in) "Active-Low Chip Select. Data is only clocked into DIN when C\S\ is low. When C\S\ is HIGH, DOUT and BUSY are high impedance", 16 DCLK (in) "Serial Clock Input. Clocks data in and out of the serial interface and sets the conversion speed (duty cycle must be 40% to 60%)."

## MXB7846EUE+
designator U?
4 Channels, 2.375 to 5.25 V, 4-Wire Touch-Screen Controller with Internal Reference and Temperature Sensor, -40 to 85 degC, 16-Pin SOP (U16+1), Pb-Free; Generic Part Number: MXB7846; PartNumber: MXB7846EUE+; Channels: 4; Controller Type: Resistive; EV Kit: Yes; Interface: QSPI, SPI; DatasheetVersion: Rev. 2; PackageVersion: Rev. L, 07/2010; PackageReference: U16+1; PackageDescription: 16-Pin Thin Shrink Small-Outline Package (U16+1), Body 5 x 4.4 mm, Pitch 0.65 mm; Supplier 1: Digi-Key; Supplier Part Number 1: MXB7846EUE+-ND; Supplier 2: Mouser; Supplier Part Number 2: 700-MXB7846EUE; Mounting Technology: Surface Mount; Code_JEDEC: MO-153; ComponentLink1Description: Manufacturer URL; ComponentLink1URL: http://www.maximintegrated.com/; ComponentLink2Description: Datasheet; ComponentLink2URL: http://datasheets.maximintegrated.com/en/ds/MXB7846.pdf; ComponentLink3Description: Package Specification; ComponentLink3URL: http://pdfserv.maximintegrated.com/package_dwgs/21-0066.PDF
footprint MAXM-U16+1_N (SOP, 16-Leads, Body 5x4.4mm, Pitch 0.65mm, IPC Medium Density)
footprint MAXM-U16+1_L (SOP, 16-Leads, Body 5x4.4mm, Pitch 0.65mm, IPC High Density)
footprint MAXM-U16+1_M (SOP, 16-Leads, Body 5x4.4mm, Pitch 0.65mm, IPC Low Density)
pins: 1 VDD (power) "Positive Supply Voltage. Connect to pin 10.", 2 X+ (in) "X+ Position Input, ADC Input Channel 1", 3 Y+ (in) "Y+ Position Input, ADC Input Channel 2", 4 X- (in) "X- Position Input", 5 Y- (in) "Y- Position Input", 6 GND (power) "Ground", 7 BAT (in) "Battery Monitoring Inputs; ADC Input Channel 3", 8 AUX (in) "Auxiliary Input to ADC; ADC Input Channel 4", 9 REF (io) "Voltage Reference Output/Input. Reference voltage for analog-to-digital conversion. In internal reference mode, the reference buffer provides a 2.50V nominal output. In external reference mode, apply a reference voltage (See Datasheet)", 10 VDD (power) "Positive Supply Voltage, +2.375V (2.70V) to +5.25V. External (internal) reference. Bypass with a 1uF capacitor. Connect to pin 1.", 11 ~{PENIRQ} (oc) "Pen Interrupt Output. Open anode output. 10k ohm to 100k ohm pullup resistor required to VDD.", 12 DOUT (hiz) "Serial Data Output. Data changes state on the falling edge of DCLK. High impedance when C\S\ is HIGH.", 13 BUSY (hiz) "Busy Output. BUSY pulses high for one clock period before the MSB decision. High impedance when C\S\ is HIGH.", 14 DIN (in) "Serial Data Input. Data clocked in on the rising edge of DCLK.", 15 ~{CS} (in) "Active-Low Chip Select. Data is only clocked into DIN when C\S\ is low. When C\S\ is HIGH, DOUT and BUSY are high impedance", 16 DCLK (in) "Serial Clock Input. Clocks data in and out of the serial interface and sets the conversion speed (duty cycle must be 40% to 60%)."

## MXB7846EUE+T
designator U?
4 Channels, 2.375 to 5.25 V, 4-Wire Touch-Screen Controller with Internal Reference and Temperature Sensor, -40 to 85 degC, 16-Pin SOP (U16+1), Pb-Free, Tape and Reel; Generic Part Number: MXB7846; PartNumber: MXB7846EUE+T; Channels: 4; Controller Type: Resistive; EV Kit: Yes; Interface: QSPI, SPI; DatasheetVersion: Rev. 2; PackageVersion: Rev. L, 07/2010; PackageReference: U16+1; PackageDescription: 16-Pin Thin Shrink Small-Outline Package (U16+1), Body 5 x 4.4 mm, Pitch 0.65 mm; Supplier 1: Digi-Key; Supplier Part Number 1: MXB7846EUE+T-ND; Supplier 2: Mouser; Supplier Part Number 2: 700-MXB7846EUET; Packing: Tape and Reel; Mounting Technology: Surface Mount; Code_JEDEC: MO-153; ComponentLink1Description: Manufacturer URL; ComponentLink1URL: http://www.maximintegrated.com/; ComponentLink2Description: Datasheet; ComponentLink2URL: http://datasheets.maximintegrated.com/en/ds/MXB7846.pdf; ComponentLink3Description: Package Specification; ComponentLink3URL: http://pdfserv.maximintegrated.com/package_dwgs/21-0066.PDF
footprint MAXM-U16+1_N (SOP, 16-Leads, Body 5x4.4mm, Pitch 0.65mm, IPC Medium Density)
footprint MAXM-U16+1_L (SOP, 16-Leads, Body 5x4.4mm, Pitch 0.65mm, IPC High Density)
footprint MAXM-U16+1_M (SOP, 16-Leads, Body 5x4.4mm, Pitch 0.65mm, IPC Low Density)
pins: 1 VDD (power) "Positive Supply Voltage. Connect to pin 10.", 2 X+ (in) "X+ Position Input, ADC Input Channel 1", 3 Y+ (in) "Y+ Position Input, ADC Input Channel 2", 4 X- (in) "X- Position Input", 5 Y- (in) "Y- Position Input", 6 GND (power) "Ground", 7 BAT (in) "Battery Monitoring Inputs; ADC Input Channel 3", 8 AUX (in) "Auxiliary Input to ADC; ADC Input Channel 4", 9 REF (io) "Voltage Reference Output/Input. Reference voltage for analog-to-digital conversion. In internal reference mode, the reference buffer provides a 2.50V nominal output. In external reference mode, apply a reference voltage (See Datasheet)", 10 VDD (power) "Positive Supply Voltage, +2.375V (2.70V) to +5.25V. External (internal) reference. Bypass with a 1uF capacitor. Connect to pin 1.", 11 ~{PENIRQ} (oc) "Pen Interrupt Output. Open anode output. 10k ohm to 100k ohm pullup resistor required to VDD.", 12 DOUT (hiz) "Serial Data Output. Data changes state on the falling edge of DCLK. High impedance when C\S\ is HIGH.", 13 BUSY (hiz) "Busy Output. BUSY pulses high for one clock period before the MSB decision. High impedance when C\S\ is HIGH.", 14 DIN (in) "Serial Data Input. Data clocked in on the rising edge of DCLK.", 15 ~{CS} (in) "Active-Low Chip Select. Data is only clocked into DIN when C\S\ is low. When C\S\ is HIGH, DOUT and BUSY are high impedance", 16 DCLK (in) "Serial Clock Input. Clocks data in and out of the serial interface and sets the conversion speed (duty cycle must be 40% to 60%)."

## MXB7846EUE-T
designator U?
4 Channels, 2.375 to 5.25 V, 4-Wire Touch-Screen Controller with Internal Reference and Temperature Sensor, -40 to 85 degC, 16-Pin SOP (U16-1), Tape and Reel; Generic Part Number: MXB7846; PartNumber: MXB7846EUE-T; Channels: 4; Controller Type: Resistive; EV Kit: Yes; Interface: QSPI, SPI; DatasheetVersion: Rev. 2; PackageVersion: Rev. L, 07/2010; PackageReference: U16-1; PackageDescription: 16-Pin Thin Shrink Small-Outline Package (U16-1), Body 5 x 4.4 mm, Pitch 0.65 mm; Supplier 1: Mouser; Supplier Part Number 1: N/A; Packing: Tape and Reel; Mounting Technology: Surface Mount; Code_JEDEC: MO-153; ComponentLink1Description: Manufacturer URL; ComponentLink1URL: http://www.maximintegrated.com/; ComponentLink2Description: Datasheet; ComponentLink2URL: http://datasheets.maximintegrated.com/en/ds/MXB7846.pdf; ComponentLink3Description: Package Specification; ComponentLink3URL: http://pdfserv.maximintegrated.com/package_dwgs/21-0066.PDF
footprint MAXM-U16-1_N (SOP, 16-Leads, Body 5x4.4mm, Pitch 0.65mm, IPC Medium Density)
footprint MAXM-U16-1_L (SOP, 16-Leads, Body 5x4.4mm, Pitch 0.65mm, IPC High Density)
footprint MAXM-U16-1_M (SOP, 16-Leads, Body 5x4.4mm, Pitch 0.65mm, IPC Low Density)
pins: 1 VDD (power) "Positive Supply Voltage. Connect to pin 10.", 2 X+ (in) "X+ Position Input, ADC Input Channel 1", 3 Y+ (in) "Y+ Position Input, ADC Input Channel 2", 4 X- (in) "X- Position Input", 5 Y- (in) "Y- Position Input", 6 GND (power) "Ground", 7 BAT (in) "Battery Monitoring Inputs; ADC Input Channel 3", 8 AUX (in) "Auxiliary Input to ADC; ADC Input Channel 4", 9 REF (io) "Voltage Reference Output/Input. Reference voltage for analog-to-digital conversion. In internal reference mode, the reference buffer provides a 2.50V nominal output. In external reference mode, apply a reference voltage (See Datasheet)", 10 VDD (power) "Positive Supply Voltage, +2.375V (2.70V) to +5.25V. External (internal) reference. Bypass with a 1uF capacitor. Connect to pin 1.", 11 ~{PENIRQ} (oc) "Pen Interrupt Output. Open anode output. 10k ohm to 100k ohm pullup resistor required to VDD.", 12 DOUT (hiz) "Serial Data Output. Data changes state on the falling edge of DCLK. High impedance when C\S\ is HIGH.", 13 BUSY (hiz) "Busy Output. BUSY pulses high for one clock period before the MSB decision. High impedance when C\S\ is HIGH.", 14 DIN (in) "Serial Data Input. Data clocked in on the rising edge of DCLK.", 15 ~{CS} (in) "Active-Low Chip Select. Data is only clocked into DIN when C\S\ is low. When C\S\ is HIGH, DOUT and BUSY are high impedance", 16 DCLK (in) "Serial Clock Input. Clocks data in and out of the serial interface and sets the conversion speed (duty cycle must be 40% to 60%)."